# Altium schematic symbol library MMBT3904-7-F.SchLib: 1 symbol
Pins are listed as number, name and electrical type; pins without a type are passive.

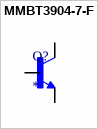
[diagram p0: symbol MMBT3904-7-F]

## MMBT3904-7-F
designator Q?
NPN SMALL SIGNAL SURFACE MOUNT TRANSISTOR; MP: MMBT3904-7-F; Package: None; Price: None; Availability: Unavailable; Value: *
footprint SOT95P230X110-3N
pins: B, C, E